# Altium footprint library MICROUSB.PcbLib: 1 footprints
Each footprint in its own frame and in the unit in brackets; x right, y up, seen from the top. Pads: shape width x height; smd on the part's side, far side on the other; paste and mask are expansions set on the pad; w line width, h text height; cw(c..) or ccw(c..) is an arc to the next point about the centre after c.
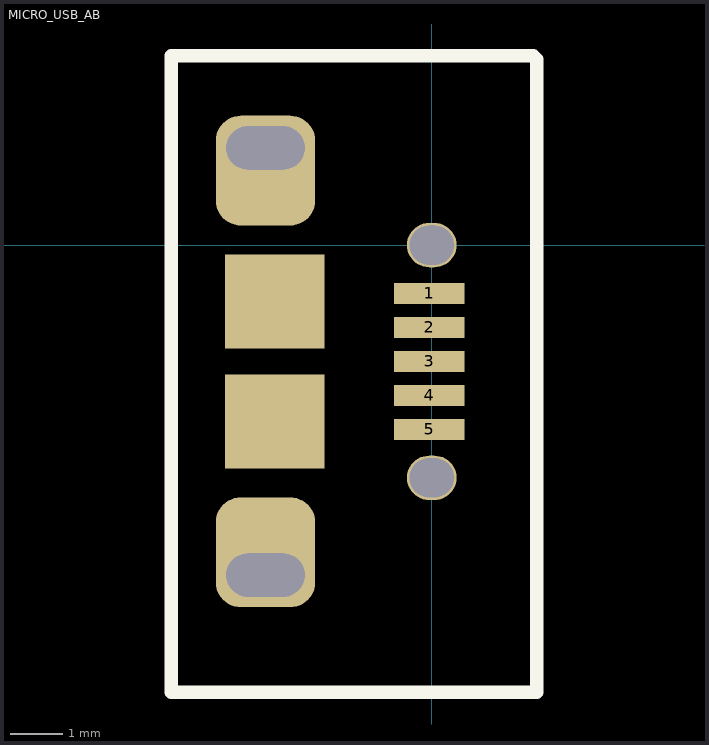
[diagram p0: the footprint, top view; thin cyan lines are the x and y axes]

## MICRO_USB_AB [mm] "Molex, Micro USB type AB 47589-0001"
pads (11):
  rect 1.35x0.4 smd: 1(-0.05,-0.925) 2(-0.05,-1.575) 3(-0.05,-2.225) 4(-0.05,-2.875) 5(-0.05,-3.525)
  rrect50% 1.9x2.1 hole 0.83 slot 1.5 at 0 deg unplated copper offset 0,0.435: ""(-3.18,-6.31)
  rrect50% 1.9x2.1 hole 0.83 slot 1.5 at 0 deg unplated copper offset 0,-0.435: ""(-3.18,1.86)
  rect 1.9x1.8 smd: ""(-3,-3.375) ""(-3,-1.075)
  oval 0.95x0.85 hole 0.75 slot 0.85 at 0 deg unplated: ""(0,-4.45) ""(0,0)
Top Overlay:
  lines w0.254: -4.98,-8.55 2.005,-8.55 2.005,3.555 1.94,3.62 -4.98,3.62 -4.98,-8.55